# Altium footprint library 658101003064.PcbLib: 1 footprints
Each footprint in its own frame and in the unit in brackets; x right, y up, seen from the top. Pads: shape width x height; smd on the part's side, far side on the other; paste and mask are expansions set on the pad; w line width, h text height; cw(c..) or ccw(c..) is an arc to the next point about the centre after c.
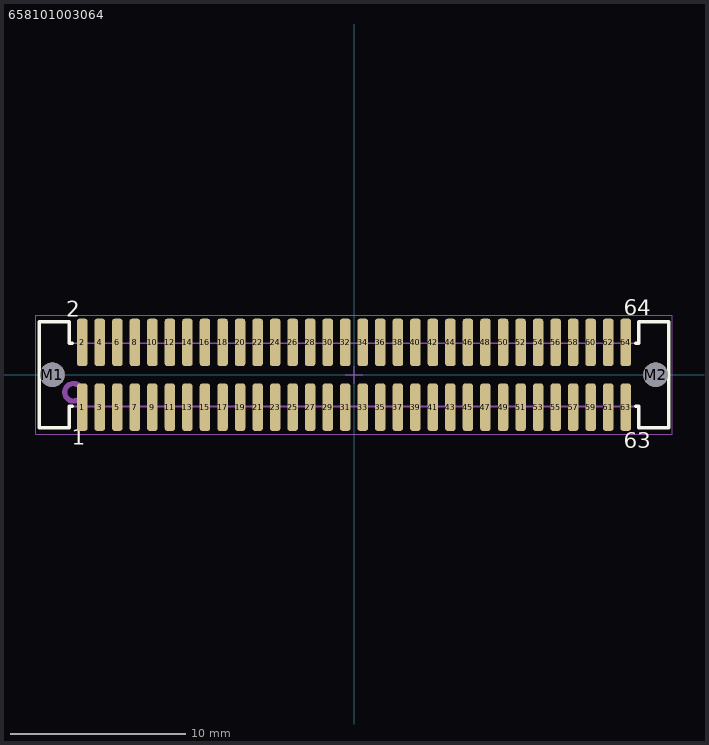
[diagram p0: the footprint, top view; thin cyan lines are the x and y axes]

## 658101003064 [mm]
pads (66):
  rrect50% 0.6x2.7 smd: 1(-15.5,-1.85) 2(-15.5,1.85) 3(-14.5,-1.85) 4(-14.5,1.85) 5(-13.5,-1.85) 6(-13.5,1.85) 7(-12.5,-1.85) 8(-12.5,1.85) 9(-11.5,-1.85) 10(-11.5,1.85) 11(-10.5,-1.85) 12(-10.5,1.85) 13(-9.5,-1.85) 14(-9.5,1.85) 15(-8.5,-1.85) 16(-8.5,1.85) 17(-7.5,-1.85) 18(-7.5,1.85) 19(-6.5,-1.85) 20(-6.5,1.85) 21(-5.5,-1.85) 22(-5.5,1.85) 23(-4.5,-1.85) 24(-4.5,1.85) 25(-3.5,-1.85) 26(-3.5,1.85) 27(-2.5,-1.85) 28(-2.5,1.85) 29(-1.5,-1.85) 30(-1.5,1.85) 31(-0.5,-1.85) 32(-0.5,1.85) 33(0.5,-1.85) 34(0.5,1.85) 35(1.5,-1.85) 36(1.5,1.85) 37(2.5,-1.85) 38(2.5,1.85) 39(3.5,-1.85) 40(3.5,1.85) 41(4.5,-1.85) 42(4.5,1.85) 43(5.5,-1.85) 44(5.5,1.85) 45(6.5,-1.85) 46(6.5,1.85) 47(7.5,-1.85) 48(7.5,1.85) 49(8.5,-1.85) 50(8.5,1.85) 51(9.5,-1.85) 52(9.5,1.85) 53(10.5,-1.85) 54(10.5,1.85) 55(11.5,-1.85) 56(11.5,1.85) 57(12.5,-1.85) 58(12.5,1.85) 59(13.5,-1.85) 60(13.5,1.85) 61(14.5,-1.85) 62(14.5,1.85) 63(15.5,-1.85) 64(15.5,1.85)
  round 1.4 hole 1.4 unplated: M1(-17.2,0) M2(17.2,0)
Top Overlay:
  lines w0.2: -16.08,-1.805 -16.23,-1.805 -16.23,-3.025 -17.95,-3.025 -17.95,3.025 -16.23,3.025 -16.23,1.805 -16.08,1.805 ; 16.08,-1.805 16.23,-1.805 16.23,-3.025 17.95,-3.025 17.95,3.025 16.23,3.025 16.23,1.805 16.08,1.805
  text "63" at 15.4,-4.2 h0.89
  text "64" at 15.4,3.4 h0.89
  text "1" at -16.1,-4 h0.89
  text "2" at -16.4,3.3 h0.89
Top Assembly:
  circle w0.3: c-16,-1 r0.5
  lines w0.1: -16.23,1.805 -16.23,3.025 -17.95,3.025 -17.95,-3.025 -16.23,-3.025 -16.23,-1.805 -16.225,-1.8 ; -16.225,-1.805 16.23,-1.805 16.23,-3.025 17.95,-3.025 17.95,3.025 16.23,3.025 16.23,1.805 ; -16.225,1.8 16.23,1.8
Top Courtyard:
  lines w0.05: -0.5,0 0.5,0 ; 0,-0.5 0,0.5 ; -18.15,-3.4 -18.15,3.4 18.15,3.4 18.15,-3.4 -18.15,-3.4
3D body "658101003064.stp": height 10.55, standoff -0.75, extent -17.95,-3.35 17.95,3.35